# Altium schematic symbol library SCH - MCU - STM32 - ST MICROELECTRONICS STM32U535CBUX UFQFPN48.SchLib: 1 symbol
Pins are listed as number, name and electrical type; pins without a type are passive.

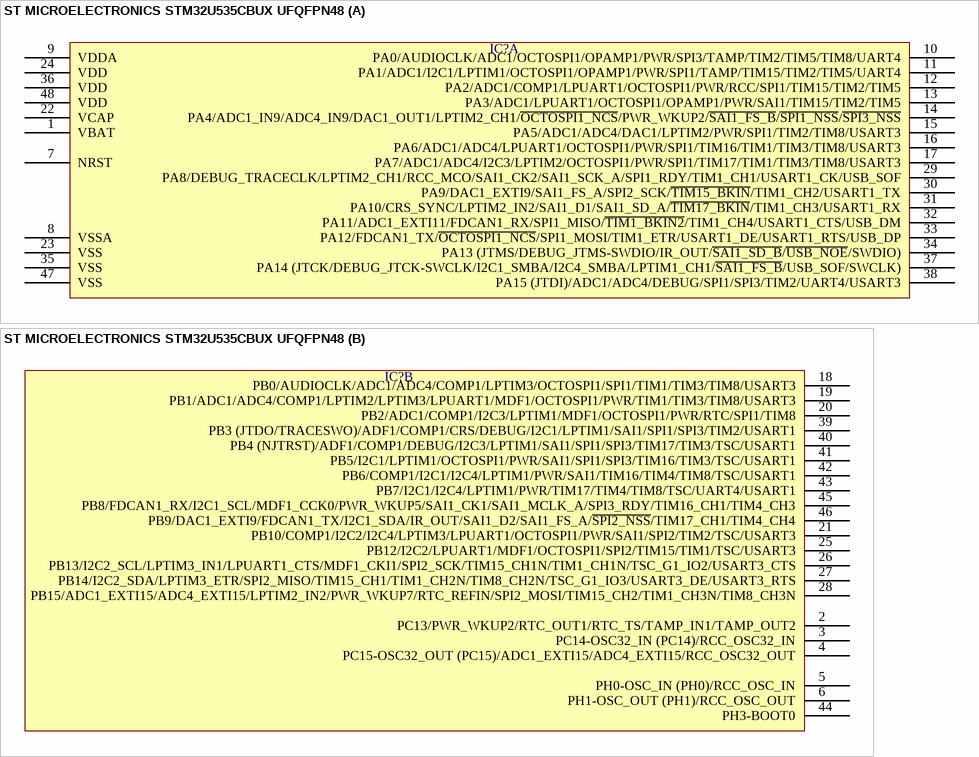
[diagram p0: symbol ST MICROELECTRONICS STM32U535CBUX UFQFPN48]

## ST MICROELECTRONICS STM32U535CBUX UFQFPN48
designator IC?  (value not drawn)
part A pins: 1 VBAT, 7 NRST, 8 VSSA, 9 VDDA, 10 PA0/AUDIOCLK/ADC1/OCTOSPI1/OPAMP1/PWR/SPI3/TAMP/TIM2/TIM5/TIM8/UART4, 11 PA1/ADC1/I2C1/LPTIM1/OCTOSPI1/OPAMP1/PWR/SPI1/TAMP/TIM15/TIM2/TIM5/UART4, 12 PA2/ADC1/COMP1/LPUART1/OCTOSPI1/PWR/RCC/SPI1/TIM15/TIM2/TIM5, 13 PA3/ADC1/LPUART1/OCTOSPI1/OPAMP1/PWR/SAI1/TIM15/TIM2/TIM5, 14 PA4/ADC1_IN9/ADC4_IN9/DAC1_OUT1/LPTIM2_CH1/~{OCTOSPI1_NCS}/PWR_WKUP2/~{SAI1_FS_B}/~{SPI1_NSS}/~{SPI3_NSS}, 15 PA5/ADC1/ADC4/DAC1/LPTIM2/PWR/SPI1/TIM2/TIM8/USART3, 16 PA6/ADC1/ADC4/LPUART1/OCTOSPI1/PWR/SPI1/TIM16/TIM1/TIM3/TIM8/USART3, 17 PA7/ADC1/ADC4/I2C3/LPTIM2/OCTOSPI1/PWR/SPI1/TIM17/TIM1/TIM3/TIM8/USART3, 22 VCAP, 23 VSS, 24 VDD, 29 PA8/DEBUG_TRACECLK/LPTIM2_CH1/RCC_MCO/SAI1_CK2/SAI1_SCK_A/SPI1_RDY/TIM1_CH1/USART1_CK/USB_SOF, 30 PA9/DAC1_EXTI9/SAI1_FS_A/SPI2_SCK/~{TIM15_BKIN}/TIM1_CH2/USART1_TX, 31 PA10/CRS_SYNC/LPTIM2_IN2/SAI1_D1/SAI1_SD_A/~{TIM17_BKIN}/TIM1_CH3/USART1_RX, 32 PA11/ADC1_EXTI11/FDCAN1_RX/SPI1_MISO/~{TIM1_BKIN2}/TIM1_CH4/USART1_CTS/USB_DM, 33 PA12/FDCAN1_TX/~{OCTOSPI1_NCS}/SPI1_MOSI/TIM1_ETR/USART1_DE/USART1_RTS/USB_DP, 34 PA13 (JTMS/DEBUG_JTMS-SWDIO/IR_OUT/~{SAI1_SD_B}/~{USB_NOE}/SWDIO), 35 VSS, 36 VDD, 37 PA14 (JTCK/DEBUG_JTCK-SWCLK/I2C1_SMBA/I2C4_SMBA/LPTIM1_CH1/~{SAI1_FS_B}/USB_SOF/SWCLK), 38 PA15 (JTDI)/ADC1/ADC4/DEBUG/SPI1/SPI3/TIM2/UART4/USART3, 47 VSS, 48 VDD
part B pins: 2 PC13/PWR_WKUP2/RTC_OUT1/RTC_TS/TAMP_IN1/TAMP_OUT2, 3 PC14-OSC32_IN (PC14)/RCC_OSC32_IN, 4 PC15-OSC32_OUT (PC15)/ADC1_EXTI15/ADC4_EXTI15/RCC_OSC32_OUT, 5 PH0-OSC_IN (PH0)/RCC_OSC_IN, 6 PH1-OSC_OUT (PH1)/RCC_OSC_OUT, 18 PB0/AUDIOCLK/ADC1/ADC4/COMP1/LPTIM3/OCTOSPI1/SPI1/TIM1/TIM3/TIM8/USART3, 19 PB1/ADC1/ADC4/COMP1/LPTIM2/LPTIM3/LPUART1/MDF1/OCTOSPI1/PWR/TIM1/TIM3/TIM8/USART3, 20 PB2/ADC1/COMP1/I2C3/LPTIM1/MDF1/OCTOSPI1/PWR/RTC/SPI1/TIM8, 21 PB10/COMP1/I2C2/I2C4/LPTIM3/LPUART1/OCTOSPI1/PWR/SAI1/SPI2/TIM2/TSC/USART3, 25 PB12/I2C2/LPUART1/MDF1/OCTOSPI1/SPI2/TIM15/TIM1/TSC/USART3, 26 PB13/I2C2_SCL/LPTIM3_IN1/LPUART1_CTS/MDF1_CKI1/SPI2_SCK/TIM15_CH1N/TIM1_CH1N/TSC_G1_IO2/USART3_CTS, 27 PB14/I2C2_SDA/LPTIM3_ETR/SPI2_MISO/TIM15_CH1/TIM1_CH2N/TIM8_CH2N/TSC_G1_IO3/USART3_DE/USART3_RTS, 28 PB15/ADC1_EXTI15/ADC4_EXTI15/LPTIM2_IN2/PWR_WKUP7/RTC_REFIN/SPI2_MOSI/TIM15_CH2/TIM1_CH3N/TIM8_CH3N, 39 PB3 (JTDO/TRACESWO)/ADF1/COMP1/CRS/DEBUG/I2C1/LPTIM1/SAI1/SPI1/SPI3/TIM2/USART1, 40 PB4 (NJTRST)/ADF1/COMP1/DEBUG/I2C3/LPTIM1/SAI1/SPI1/SPI3/TIM17/TIM3/TSC/USART1, 41 PB5/I2C1/LPTIM1/OCTOSPI1/PWR/SAI1/SPI1/SPI3/TIM16/TIM3/TSC/USART1, 42 PB6/COMP1/I2C1/I2C4/LPTIM1/PWR/SAI1/TIM16/TIM4/TIM8/TSC/USART1, 43 PB7/I2C1/I2C4/LPTIM1/PWR/TIM17/TIM4/TIM8/TSC/UART4/USART1, 44 PH3-BOOT0, 45 PB8/FDCAN1_RX/I2C1_SCL/MDF1_CCK0/PWR_WKUP5/SAI1_CK1/SAI1_MCLK_A/SPI3_RDY/TIM16_CH1/TIM4_CH3, 46 PB9/DAC1_EXTI9/FDCAN1_TX/I2C1_SDA/IR_OUT/SAI1_D2/SAI1_FS_A/~{SPI2_NSS}/TIM17_CH1/TIM4_CH4